# Altium schematic symbol library Sensor_Motion.SchLib: 1 symbol
Pins are listed as number, name and electrical type; pins without a type are passive.

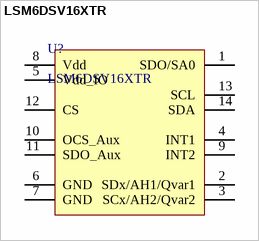
[diagram p0: symbol LSM6DSV16XTR]

## LSM6DSV16XTR
designator U?
I2C/SPI, iNEMO inertial module: always-on 3D accelerometer and 3D gyroscope, 1.71V to 3.6V VCC
footprint LGA-14_3x2.5mm_P0.5mm_LayoutBorder3x4y
pins: 1 SDO/SA0, 2 SDx/AH1/Qvar1, 3 SCx/AH2/Qvar2, 4 INT1, 5 Vdd_IO, 6 GND, 7 GND, 8 Vdd, 9 INT2, 10 OCS_Aux, 11 SDO_Aux, 12 CS, 13 SCL, 14 SDA